# Altium footprint library Connector_PinSocket_2.00mm.PcbLib: 278 footprints (part 11 of 18)
Each footprint in its own frame and in the unit in brackets; x right, y up, seen from the top. Pads: shape width x height; smd on the part's side, far side on the other; paste and mask are expansions set on the pad; w line width, h text height; cw(c..) or ccw(c..) is an arc to the next point about the centre after c.
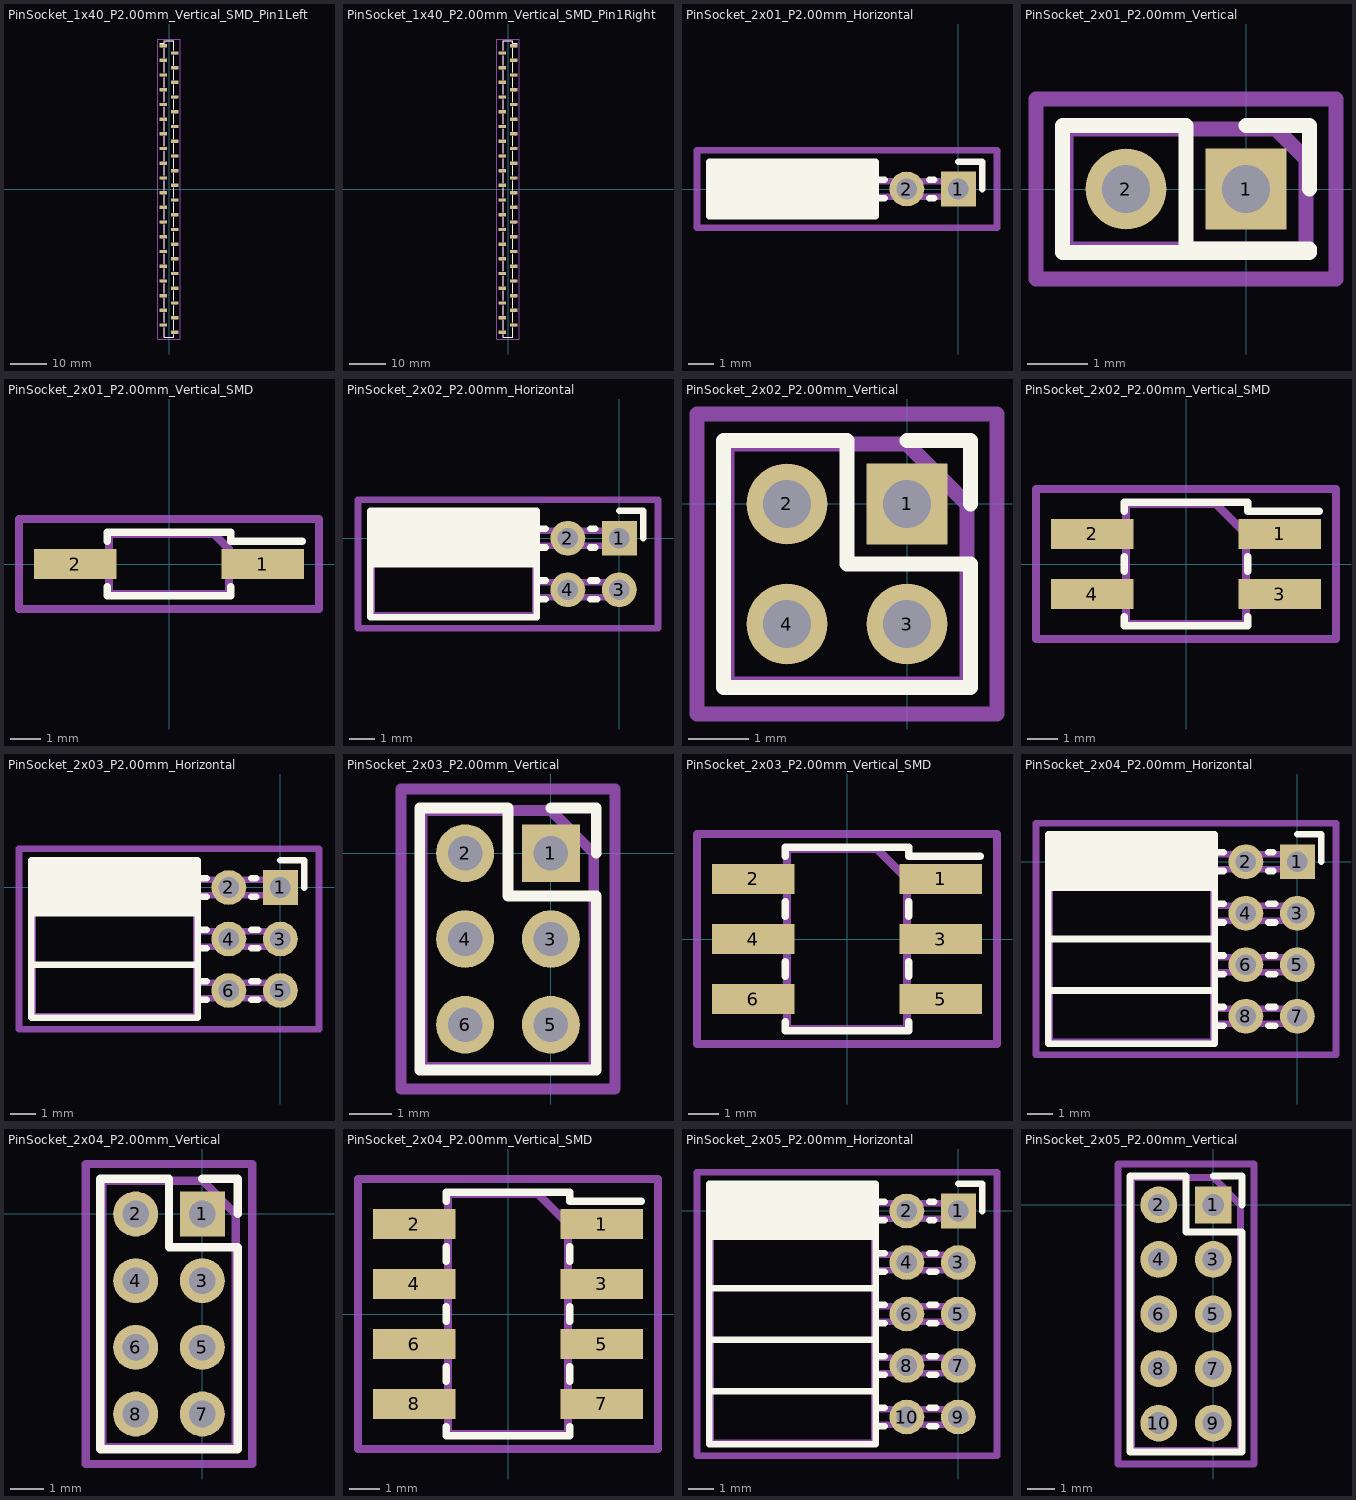
[diagram p10: the footprints below, top view; thin cyan lines are the x and y axes]

## PinSocket_1x40_P2.00mm_Vertical_SMD_Pin1Left [mm]
pads (40):
  rect 2x0.9 smd: 1(-1.6,39) 2(1.6,37) 3(-1.6,35) 4(1.6,33) 5(-1.6,31) 6(1.6,29) 7(-1.6,27) 8(1.6,25) 9(-1.6,23) 10(1.6,21) 11(-1.6,19) 12(1.6,17) 13(-1.6,15) 14(1.6,13) 15(-1.6,11) 16(1.6,9) 17(-1.6,7) 18(1.6,5) 19(-1.6,3) 20(1.6,1) 21(-1.6,-1) 22(1.6,-3) 23(-1.6,-5) 24(1.6,-7) 25(-1.6,-9) 26(1.6,-11) 27(-1.6,-13) 28(1.6,-15) 29(-1.6,-17) 30(1.6,-19) 31(-1.6,-21) 32(1.6,-23) 33(-1.6,-25) 34(1.6,-27) 35(-1.6,-29) 36(1.6,-31) 37(-1.6,-33) 38(1.6,-35) 39(-1.6,-37) 40(1.6,-39)
F.SilkS:
  lines w0.254: -2.54,39.71 -1.31,39.71 -1.31,40.36 1.31,40.36 1.31,37.71 ; -1.31,-37.71 -1.31,-40.36 1.31,-40.36 1.31,-39.71 ; -1.31,-36.29 -1.31,-33.71 ; -1.31,-32.29 -1.31,-29.71 ; -1.31,-28.29 -1.31,-25.71 ; -1.31,-24.29 -1.31,-21.71 ; -1.31,-20.29 -1.31,-17.71 ; -1.31,-16.29 -1.31,-13.71 ; -1.31,-12.29 -1.31,-9.71 ; -1.31,-8.29 -1.31,-5.71 ; -1.31,-4.29 -1.31,-1.71 ; -1.31,-0.29 -1.31,2.29 ; -1.31,3.71 -1.31,6.29 ; -1.31,7.71 -1.31,10.29 ; -1.31,11.71 -1.31,14.29 ; -1.31,15.71 -1.31,18.29 ; -1.31,19.71 -1.31,22.29 ; -1.31,23.71 -1.31,26.29 ; -1.31,27.71 -1.31,30.29 ; -1.31,31.71 -1.31,34.29 ; -1.31,35.71 -1.31,38.29 ; 1.31,-38.29 1.31,-35.71 ; 1.31,-34.29 1.31,-31.71 ; 1.31,-30.29 1.31,-27.71 ; 1.31,-26.29 1.31,-23.71 ; 1.31,-22.29 1.31,-19.71 ; 1.31,-18.29 1.31,-15.71 ; 1.31,-14.29 1.31,-11.71 ; 1.31,-10.29 1.31,-7.71 ; 1.31,-6.29 1.31,-3.71 ; 1.31,-2.29 1.31,0.29 ; 1.31,1.71 1.31,4.29 ; 1.31,5.71 1.31,8.29 ; 1.31,9.71 1.31,12.29 ; 1.31,13.71 1.31,16.29 ; 1.31,17.71 1.31,20.29 ; 1.31,21.71 1.31,24.29 ; 1.31,25.71 1.31,28.29 ; 1.31,29.71 1.31,32.29 ; 1.31,33.71 1.31,36.29
Top Assembly:
  lines w0.254: -1.25,-37.25 -2.1,-37.25 -2.1,-36.75 -1.25,-36.75 ; -1.25,-33.25 -2.1,-33.25 -2.1,-32.75 -1.25,-32.75 ; -1.25,-29.25 -2.1,-29.25 -2.1,-28.75 -1.25,-28.75 ; -1.25,-25.25 -2.1,-25.25 -2.1,-24.75 -1.25,-24.75 ; -1.25,-21.25 -2.1,-21.25 -2.1,-20.75 -1.25,-20.75 ; -1.25,-17.25 -2.1,-17.25 -2.1,-16.75 -1.25,-16.75 ; -1.25,-13.25 -2.1,-13.25 -2.1,-12.75 -1.25,-12.75 ; -1.25,-9.25 -2.1,-9.25 -2.1,-8.75 -1.25,-8.75 ; -1.25,-5.25 -2.1,-5.25 -2.1,-4.75 -1.25,-4.75 ; -1.25,-1.25 -2.1,-1.25 -2.1,-0.75 -1.25,-0.75 ; -1.25,2.75 -2.1,2.75 -2.1,3.25 -1.25,3.25 ; -1.25,6.75 -2.1,6.75 -2.1,7.25 -1.25,7.25 ; -1.25,10.75 -2.1,10.75 -2.1,11.25 -1.25,11.25 ; -1.25,14.75 -2.1,14.75 -2.1,15.25 -1.25,15.25 ; -1.25,18.75 -2.1,18.75 -2.1,19.25 -1.25,19.25 ; -1.25,22.75 -2.1,22.75 -2.1,23.25 -1.25,23.25 ; -1.25,26.75 -2.1,26.75 -2.1,27.25 -1.25,27.25 ; -1.25,30.75 -2.1,30.75 -2.1,31.25 -1.25,31.25 ; -1.25,34.75 -2.1,34.75 -2.1,35.25 -1.25,35.25 ; -1.25,38.75 -2.1,38.75 -2.1,39.25 -1.25,39.25 ; 1.25,-39.25 2.1,-39.25 2.1,-38.75 1.25,-38.75 ; 1.25,-35.25 2.1,-35.25 2.1,-34.75 1.25,-34.75 ; 1.25,-31.25 2.1,-31.25 2.1,-30.75 1.25,-30.75 ; 1.25,-27.25 2.1,-27.25 2.1,-26.75 1.25,-26.75 ; 1.25,-23.25 2.1,-23.25 2.1,-22.75 1.25,-22.75 ; 1.25,-19.25 2.1,-19.25 2.1,-18.75 1.25,-18.75 ; 1.25,-15.25 2.1,-15.25 2.1,-14.75 1.25,-14.75 ; 1.25,-11.25 2.1,-11.25 2.1,-10.75 1.25,-10.75 ; 1.25,-7.25 2.1,-7.25 2.1,-6.75 1.25,-6.75 ; 1.25,-3.25 2.1,-3.25 2.1,-2.75 1.25,-2.75 ; 1.25,0.75 2.1,0.75 2.1,1.25 1.25,1.25 ; 1.25,4.75 2.1,4.75 2.1,5.25 1.25,5.25 ; 1.25,8.75 2.1,8.75 2.1,9.25 1.25,9.25 ; 1.25,12.75 2.1,12.75 2.1,13.25 1.25,13.25 ; 1.25,16.75 2.1,16.75 2.1,17.25 1.25,17.25 ; 1.25,20.75 2.1,20.75 2.1,21.25 1.25,21.25 ; 1.25,24.75 2.1,24.75 2.1,25.25 1.25,25.25 ; 1.25,28.75 2.1,28.75 2.1,29.25 1.25,29.25 ; 1.25,32.75 2.1,32.75 2.1,33.25 1.25,33.25 ; 1.25,36.75 2.1,36.75 2.1,37.25 1.25,37.25 ; -1.25,-40.3 1.25,-40.3 1.25,40.3 -0.625,40.3 -1.25,39.675 -1.25,-40.3
  text "'.Designator'" at 0.84,-4.047 h1
Top Courtyard:
  lines w0.254: -3.1,-40.8 3.1,-40.8 3.1,40.8 -3.1,40.8 -3.1,-40.8
Top Designator:
  text ".Designator" at -7.618,-0.508 h1.52

## PinSocket_1x40_P2.00mm_Vertical_SMD_Pin1Right [mm]
pads (40):
  rect 2x0.9 smd: 1(1.6,39) 2(-1.6,37) 3(1.6,35) 4(-1.6,33) 5(1.6,31) 6(-1.6,29) 7(1.6,27) 8(-1.6,25) 9(1.6,23) 10(-1.6,21) 11(1.6,19) 12(-1.6,17) 13(1.6,15) 14(-1.6,13) 15(1.6,11) 16(-1.6,9) 17(1.6,7) 18(-1.6,5) 19(1.6,3) 20(-1.6,1) 21(1.6,-1) 22(-1.6,-3) 23(1.6,-5) 24(-1.6,-7) 25(1.6,-9) 26(-1.6,-11) 27(1.6,-13) 28(-1.6,-15) 29(1.6,-17) 30(-1.6,-19) 31(1.6,-21) 32(-1.6,-23) 33(1.6,-25) 34(-1.6,-27) 35(1.6,-29) 36(-1.6,-31) 37(1.6,-33) 38(-1.6,-35) 39(1.6,-37) 40(-1.6,-39)
F.SilkS:
  lines w0.254: -1.31,-39.71 -1.31,-40.36 1.31,-40.36 1.31,-37.71 ; -1.31,-38.29 -1.31,-35.71 ; -1.31,-34.29 -1.31,-31.71 ; -1.31,-30.29 -1.31,-27.71 ; -1.31,-26.29 -1.31,-23.71 ; -1.31,-22.29 -1.31,-19.71 ; -1.31,-18.29 -1.31,-15.71 ; -1.31,-14.29 -1.31,-11.71 ; -1.31,-10.29 -1.31,-7.71 ; -1.31,-6.29 -1.31,-3.71 ; -1.31,-2.29 -1.31,0.29 ; -1.31,1.71 -1.31,4.29 ; -1.31,5.71 -1.31,8.29 ; -1.31,9.71 -1.31,12.29 ; -1.31,13.71 -1.31,16.29 ; -1.31,17.71 -1.31,20.29 ; -1.31,21.71 -1.31,24.29 ; -1.31,25.71 -1.31,28.29 ; -1.31,29.71 -1.31,32.29 ; -1.31,33.71 -1.31,36.29 ; -1.31,37.71 -1.31,40.36 1.31,40.36 1.31,39.71 2.54,39.71 ; 1.31,-36.29 1.31,-33.71 ; 1.31,-32.29 1.31,-29.71 ; 1.31,-28.29 1.31,-25.71 ; 1.31,-24.29 1.31,-21.71 ; 1.31,-20.29 1.31,-17.71 ; 1.31,-16.29 1.31,-13.71 ; 1.31,-12.29 1.31,-9.71 ; 1.31,-8.29 1.31,-5.71 ; 1.31,-4.29 1.31,-1.71 ; 1.31,-0.29 1.31,2.29 ; 1.31,3.71 1.31,6.29 ; 1.31,7.71 1.31,10.29 ; 1.31,11.71 1.31,14.29 ; 1.31,15.71 1.31,18.29 ; 1.31,19.71 1.31,22.29 ; 1.31,23.71 1.31,26.29 ; 1.31,27.71 1.31,30.29 ; 1.31,31.71 1.31,34.29 ; 1.31,35.71 1.31,38.29
Top Assembly:
  lines w0.254: -1.25,-39.25 -2.1,-39.25 -2.1,-38.75 -1.25,-38.75 ; -1.25,-35.25 -2.1,-35.25 -2.1,-34.75 -1.25,-34.75 ; -1.25,-31.25 -2.1,-31.25 -2.1,-30.75 -1.25,-30.75 ; -1.25,-27.25 -2.1,-27.25 -2.1,-26.75 -1.25,-26.75 ; -1.25,-23.25 -2.1,-23.25 -2.1,-22.75 -1.25,-22.75 ; -1.25,-19.25 -2.1,-19.25 -2.1,-18.75 -1.25,-18.75 ; -1.25,-15.25 -2.1,-15.25 -2.1,-14.75 -1.25,-14.75 ; -1.25,-11.25 -2.1,-11.25 -2.1,-10.75 -1.25,-10.75 ; -1.25,-7.25 -2.1,-7.25 -2.1,-6.75 -1.25,-6.75 ; -1.25,-3.25 -2.1,-3.25 -2.1,-2.75 -1.25,-2.75 ; -1.25,0.75 -2.1,0.75 -2.1,1.25 -1.25,1.25 ; -1.25,4.75 -2.1,4.75 -2.1,5.25 -1.25,5.25 ; -1.25,8.75 -2.1,8.75 -2.1,9.25 -1.25,9.25 ; -1.25,12.75 -2.1,12.75 -2.1,13.25 -1.25,13.25 ; -1.25,16.75 -2.1,16.75 -2.1,17.25 -1.25,17.25 ; -1.25,20.75 -2.1,20.75 -2.1,21.25 -1.25,21.25 ; -1.25,24.75 -2.1,24.75 -2.1,25.25 -1.25,25.25 ; -1.25,28.75 -2.1,28.75 -2.1,29.25 -1.25,29.25 ; -1.25,32.75 -2.1,32.75 -2.1,33.25 -1.25,33.25 ; -1.25,36.75 -2.1,36.75 -2.1,37.25 -1.25,37.25 ; 1.25,-37.25 2.1,-37.25 2.1,-36.75 1.25,-36.75 ; 1.25,-33.25 2.1,-33.25 2.1,-32.75 1.25,-32.75 ; 1.25,-29.25 2.1,-29.25 2.1,-28.75 1.25,-28.75 ; 1.25,-25.25 2.1,-25.25 2.1,-24.75 1.25,-24.75 ; 1.25,-21.25 2.1,-21.25 2.1,-20.75 1.25,-20.75 ; 1.25,-17.25 2.1,-17.25 2.1,-16.75 1.25,-16.75 ; 1.25,-13.25 2.1,-13.25 2.1,-12.75 1.25,-12.75 ; 1.25,-9.25 2.1,-9.25 2.1,-8.75 1.25,-8.75 ; 1.25,-5.25 2.1,-5.25 2.1,-4.75 1.25,-4.75 ; 1.25,-1.25 2.1,-1.25 2.1,-0.75 1.25,-0.75 ; 1.25,2.75 2.1,2.75 2.1,3.25 1.25,3.25 ; 1.25,6.75 2.1,6.75 2.1,7.25 1.25,7.25 ; 1.25,10.75 2.1,10.75 2.1,11.25 1.25,11.25 ; 1.25,14.75 2.1,14.75 2.1,15.25 1.25,15.25 ; 1.25,18.75 2.1,18.75 2.1,19.25 1.25,19.25 ; 1.25,22.75 2.1,22.75 2.1,23.25 1.25,23.25 ; 1.25,26.75 2.1,26.75 2.1,27.25 1.25,27.25 ; 1.25,30.75 2.1,30.75 2.1,31.25 1.25,31.25 ; 1.25,34.75 2.1,34.75 2.1,35.25 1.25,35.25 ; 1.25,38.75 2.1,38.75 2.1,39.25 1.25,39.25 ; -1.25,-40.3 1.25,-40.3 1.25,39.675 0.625,40.3 -1.25,40.3 -1.25,-40.3
  text "'.Designator'" at 0.84,-4.047 h1
Top Courtyard:
  lines w0.254: -3.1,-40.8 3.1,-40.8 3.1,40.8 -3.1,40.8 -3.1,-40.8
Top Designator:
  text ".Designator" at -7.618,-0.508 h1.52

## PinSocket_2x01_P2.00mm_Horizontal [mm]
pads (2):
  rect 1.35x1.35 hole 0.8: 1(0,0)
  round 1.35 hole 0.8: 2(-2,0)
F.SilkS:
  lines w0.254: -9.68,-0.942 -3.21,-0.942 ; -9.68,-0.825 -3.21,-0.825 ; -9.68,-0.707 -3.21,-0.707 ; -9.68,-0.589 -3.21,-0.589 ; -9.68,-0.472 -3.21,-0.472 ; -9.68,-0.354 -3.21,-0.354 ; -9.68,-0.236 -3.21,-0.236 ; -9.68,-0.119 -3.21,-0.119 ; -9.68,-0.001 -3.21,-0.001 ; -9.68,0.116 -3.21,0.116 ; -9.68,0.234 -3.21,0.234 ; -9.68,0.352 -3.21,0.352 ; -9.68,0.469 -3.21,0.469 ; -9.68,0.587 -3.21,0.587 ; -9.68,0.705 -3.21,0.705 ; -9.68,0.822 -3.21,0.822 ; -9.68,0.94 -3.21,0.94 ; -3.21,-0.36 -2.863,-0.36 ; -3.21,0.36 -2.863,0.36 ; -1.137,-0.36 -0.935,-0.36 ; -1.137,0.36 -0.935,0.36 ; 0,1.06 0.935,1.06 0.935,0 ; -9.68,-1.06 -3.21,-1.06 -3.21,1.06 -9.68,1.06 -9.68,-1.06
Top Assembly:
  lines w0.254: -3.27,-0.3 0,-0.3 0,0.3 -3.27,0.3 ; -9.62,-1 -3.27,-1 -3.27,0.5 -3.77,1 -9.62,1 -9.62,-1
  text "'.Designator'" at -10.492,-0.84 h1
Top Courtyard:
  lines w0.254: -10.15,-1.5 1.5,-1.5 1.5,1.5 -10.15,1.5 -10.15,-1.5
Top Designator:
  text ".Designator" at -12.125,-0.508 h1.52

## PinSocket_2x01_P2.00mm_Vertical [mm]
pads (2):
  rect 1.35x1.35 hole 0.8: 1(0,0)
  round 1.35 hole 0.8: 2(-2,0)
F.SilkS:
  lines w0.254: 0,1.06 1.06,1.06 1.06,0 ; -3.06,-1.06 1.06,-1.06 1.06,-1 -1,-1 -1,1.06 -3.06,1.06 -3.06,-1.06
Top Assembly:
  lines w0.254: -3,-1 1,-1 1,0.5 0.5,1 -3,1 -3,-1
  text "'.Designator'" at -5.047,-0.84 h1
Top Courtyard:
  lines w0.254: -3.5,-1.5 1.5,-1.5 1.5,1.5 -3.5,1.5 -3.5,-1.5
Top Designator:
  text ".Designator" at -8.768,-0.508 h1.52

## PinSocket_2x01_P2.00mm_Vertical_SMD [mm]
pads (2):
  rect 2.75x1 smd: 1(3.125,0) 2(-3.125,0)
F.SilkS:
  lines w0.254: -2.06,-0.76 -2.06,-1.06 2.06,-1.06 2.06,-0.76 ; -2.06,0.76 -2.06,1.06 2.06,1.06 2.06,0.76 4.44,0.76
Top Assembly:
  lines w0.254: -2,-0.25 -3,-0.25 -3,0.25 -2,0.25 ; 2,-0.25 3,-0.25 3,0.25 2,0.25 ; -2,-1 2,-1 2,0.5 1.5,1 -2,1 -2,-1
  text "'.Designator'" at -4.047,-0.84 h1
Top Courtyard:
  lines w0.254: -5,-1.5 5,-1.5 5,1.5 -5,1.5 -5,-1.5
Top Designator:
  text ".Designator" at -7.618,-0.508 h1.52

## PinSocket_2x02_P2.00mm_Horizontal [mm]
pads (4):
  rect 1.35x1.35 hole 0.8: 1(0,0)
  round 1.35 hole 0.8: 2(-2,0) 3(0,-2) 4(-2,-2)
F.SilkS:
  lines w0.254: -9.68,-1 -3.21,-1 ; -9.68,-0.886 -3.21,-0.886 ; -9.68,-0.772 -3.21,-0.772 ; -9.68,-0.658 -3.21,-0.658 ; -9.68,-0.544 -3.21,-0.544 ; -9.68,-0.429 -3.21,-0.429 ; -9.68,-0.315 -3.21,-0.315 ; -9.68,-0.201 -3.21,-0.201 ; -9.68,-0.087 -3.21,-0.087 ; -9.68,0.027 -3.21,0.027 ; -9.68,0.141 -3.21,0.141 ; -9.68,0.255 -3.21,0.255 ; -9.68,0.369 -3.21,0.369 ; -9.68,0.484 -3.21,0.484 ; -9.68,0.598 -3.21,0.598 ; -9.68,0.712 -3.21,0.712 ; -9.68,0.826 -3.21,0.826 ; -9.68,0.94 -3.21,0.94 ; -3.21,-2.36 -2.863,-2.36 ; -3.21,-1.64 -2.863,-1.64 ; -3.21,-0.36 -2.863,-0.36 ; -3.21,0.36 -2.863,0.36 ; -1.137,-2.36 -0.863,-2.36 ; -1.137,-1.64 -0.863,-1.64 ; -1.137,-0.36 -0.935,-0.36 ; -1.137,0.36 -0.935,0.36 ; 0,1.06 0.935,1.06 0.935,0 ; -9.68,-3.06 -3.21,-3.06 -3.21,1.06 -9.68,1.06 -9.68,-3.06
Top Assembly:
  lines w0.254: -3.27,-2.3 0,-2.3 0,-1.7 -3.27,-1.7 ; -3.27,-0.3 0,-0.3 0,0.3 -3.27,0.3 ; -3.27,0.3 -3.27,-3 -9.62,-3 -9.62,1 -3.97,1 -3.27,0.3
  text "'.Designator'" at -10.492,-1.84 h1
Top Courtyard:
  lines w0.254: -10.15,-3.5 1.5,-3.5 1.5,1.5 -10.15,1.5 -10.15,-3.5
Top Designator:
  text ".Designator" at -12.125,-1.508 h1.52

## PinSocket_2x02_P2.00mm_Vertical [mm]
pads (4):
  rect 1.35x1.35 hole 0.8: 1(0,0)
  round 1.35 hole 0.8: 2(-2,0) 3(0,-2) 4(-2,-2)
F.SilkS:
  lines w0.254: 0,1.06 1.06,1.06 1.06,0 ; -3.06,-3.06 1.06,-3.06 1.06,-1 -1,-1 -1,1.06 -3.06,1.06 -3.06,-3.06
Top Assembly:
  lines w0.254: -3,-3 1,-3 1,0 0,1 -3,1 -3,-3
  text "'.Designator'" at -0.16,-5.047 h1
Top Courtyard:
  lines w0.254: -3.5,-3.5 1.5,-3.5 1.5,1.5 -3.5,1.5 -3.5,-3.5
Top Designator:
  text ".Designator" at -8.618,-1.658 h1.52

## PinSocket_2x02_P2.00mm_Vertical_SMD [mm]
pads (4):
  rect 2.75x1 smd: 1(3.125,1) 2(-3.125,1) 3(3.125,-1) 4(-3.125,-1)
F.SilkS:
  lines w0.254: -2.06,-1.76 -2.06,-2.06 2.06,-2.06 2.06,-1.76 ; -2.06,-0.24 -2.06,0.24 ; -2.06,1.76 -2.06,2.06 2.06,2.06 2.06,1.76 4.44,1.76 ; 2.06,-0.24 2.06,0.24
Top Assembly:
  lines w0.254: -2,-1.25 -3,-1.25 -3,-0.75 -2,-0.75 ; -2,0.75 -3,0.75 -3,1.25 -2,1.25 ; 2,-1.25 3,-1.25 3,-0.75 2,-0.75 ; 2,0.75 3,0.75 3,1.25 2,1.25 ; -2,-2 2,-2 2,1 1,2 -2,2 -2,-2
  text "'.Designator'" at 0.84,-4.047 h1
Top Courtyard:
  lines w0.254: -5,-2.5 5,-2.5 5,2.5 -5,2.5 -5,-2.5
Top Designator:
  text ".Designator" at -7.618,-0.658 h1.52

## PinSocket_2x03_P2.00mm_Horizontal [mm]
pads (6):
  rect 1.35x1.35 hole 0.8: 1(0,0)
  round 1.35 hole 0.8: 2(-2,0) 3(0,-2) 4(-2,-2) 5(0,-4) 6(-2,-4)
F.SilkS:
  lines w0.254: -9.68,-3 -3.21,-3 ; -9.68,-1 -3.21,-1 ; -9.68,-0.886 -3.21,-0.886 ; -9.68,-0.772 -3.21,-0.772 ; -9.68,-0.658 -3.21,-0.658 ; -9.68,-0.544 -3.21,-0.544 ; -9.68,-0.429 -3.21,-0.429 ; -9.68,-0.315 -3.21,-0.315 ; -9.68,-0.201 -3.21,-0.201 ; -9.68,-0.087 -3.21,-0.087 ; -9.68,0.027 -3.21,0.027 ; -9.68,0.141 -3.21,0.141 ; -9.68,0.255 -3.21,0.255 ; -9.68,0.369 -3.21,0.369 ; -9.68,0.484 -3.21,0.484 ; -9.68,0.598 -3.21,0.598 ; -9.68,0.712 -3.21,0.712 ; -9.68,0.826 -3.21,0.826 ; -9.68,0.94 -3.21,0.94 ; -3.21,-4.36 -2.863,-4.36 ; -3.21,-3.64 -2.863,-3.64 ; -3.21,-2.36 -2.863,-2.36 ; -3.21,-1.64 -2.863,-1.64 ; -3.21,-0.36 -2.863,-0.36 ; -3.21,0.36 -2.863,0.36 ; -1.137,-4.36 -0.863,-4.36 ; -1.137,-3.64 -0.863,-3.64 ; -1.137,-2.36 -0.863,-2.36 ; -1.137,-1.64 -0.863,-1.64 ; -1.137,-0.36 -0.935,-0.36 ; -1.137,0.36 -0.935,0.36 ; 0,1.06 0.935,1.06 0.935,0 ; -9.68,-5.06 -3.21,-5.06 -3.21,1.06 -9.68,1.06 -9.68,-5.06
Top Assembly:
  lines w0.254: -3.27,-4.3 0,-4.3 0,-3.7 -3.27,-3.7 ; -3.27,-2.3 0,-2.3 0,-1.7 -3.27,-1.7 ; -3.27,-0.3 0,-0.3 0,0.3 -3.27,0.3 ; -3.27,0.3 -3.27,-5 -9.62,-5 -9.62,1 -3.97,1 -3.27,0.3
  text "'.Designator'" at -10.492,-2.84 h1
Top Courtyard:
  lines w0.254: -10.15,-5.5 1.5,-5.5 1.5,1.5 -10.15,1.5 -10.15,-5.5
Top Designator:
  text ".Designator" at -12.125,-2.508 h1.52

## PinSocket_2x03_P2.00mm_Vertical [mm]
pads (6):
  rect 1.35x1.35 hole 0.8: 1(0,0)
  round 1.35 hole 0.8: 2(-2,0) 3(0,-2) 4(-2,-2) 5(0,-4) 6(-2,-4)
F.SilkS:
  lines w0.254: 0,1.06 1.06,1.06 1.06,0 ; -3.06,-5.06 1.06,-5.06 1.06,-1 -1,-1 -1,1.06 -3.06,1.06 -3.06,-5.06
Top Assembly:
  lines w0.254: -3,-5 1,-5 1,0 0,1 -3,1 -3,-5
  text "'.Designator'" at -0.16,-6.047 h1
Top Courtyard:
  lines w0.254: -3.5,-5.5 1.5,-5.5 1.5,1.5 -3.5,1.5 -3.5,-5.5
Top Designator:
  text ".Designator" at -8.618,-2.658 h1.52

## PinSocket_2x03_P2.00mm_Vertical_SMD [mm]
pads (6):
  rect 2.75x1 smd: 1(3.125,2) 2(-3.125,2) 3(3.125,0) 4(-3.125,0) 5(3.125,-2) 6(-3.125,-2)
F.SilkS:
  lines w0.254: -2.06,-2.76 -2.06,-3.06 2.06,-3.06 2.06,-2.76 ; -2.06,-1.24 -2.06,-0.76 ; -2.06,0.76 -2.06,1.24 ; -2.06,2.76 -2.06,3.06 2.06,3.06 2.06,2.76 4.44,2.76 ; 2.06,-1.24 2.06,-0.76 ; 2.06,0.76 2.06,1.24
Top Assembly:
  lines w0.254: -2,-2.25 -3,-2.25 -3,-1.75 -2,-1.75 ; -2,-0.25 -3,-0.25 -3,0.25 -2,0.25 ; -2,1.75 -3,1.75 -3,2.25 -2,2.25 ; 2,-2.25 3,-2.25 3,-1.75 2,-1.75 ; 2,-0.25 3,-0.25 3,0.25 2,0.25 ; 2,1.75 3,1.75 3,2.25 2,2.25 ; -2,-3 2,-3 2,2 1,3 -2,3 -2,-3
  text "'.Designator'" at 0.84,-4.047 h1
Top Courtyard:
  lines w0.254: -5,-3.5 5,-3.5 5,3.5 -5,3.5 -5,-3.5
Top Designator:
  text ".Designator" at -7.618,-0.658 h1.52

## PinSocket_2x04_P2.00mm_Horizontal [mm]
pads (8):
  rect 1.35x1.35 hole 0.8: 1(0,0)
  round 1.35 hole 0.8: 2(-2,0) 3(0,-2) 4(-2,-2) 5(0,-4) 6(-2,-4) 7(0,-6) 8(-2,-6)
F.SilkS:
  lines w0.254: -9.68,-5 -3.21,-5 ; -9.68,-3 -3.21,-3 ; -9.68,-1 -3.21,-1 ; -9.68,-0.886 -3.21,-0.886 ; -9.68,-0.772 -3.21,-0.772 ; -9.68,-0.658 -3.21,-0.658 ; -9.68,-0.544 -3.21,-0.544 ; -9.68,-0.429 -3.21,-0.429 ; -9.68,-0.315 -3.21,-0.315 ; -9.68,-0.201 -3.21,-0.201 ; -9.68,-0.087 -3.21,-0.087 ; -9.68,0.027 -3.21,0.027 ; -9.68,0.141 -3.21,0.141 ; -9.68,0.255 -3.21,0.255 ; -9.68,0.369 -3.21,0.369 ; -9.68,0.484 -3.21,0.484 ; -9.68,0.598 -3.21,0.598 ; -9.68,0.712 -3.21,0.712 ; -9.68,0.826 -3.21,0.826 ; -9.68,0.94 -3.21,0.94 ; -3.21,-6.36 -2.863,-6.36 ; -3.21,-5.64 -2.863,-5.64 ; -3.21,-4.36 -2.863,-4.36 ; -3.21,-3.64 -2.863,-3.64 ; -3.21,-2.36 -2.863,-2.36 ; -3.21,-1.64 -2.863,-1.64 ; -3.21,-0.36 -2.863,-0.36 ; -3.21,0.36 -2.863,0.36 ; -1.137,-6.36 -0.863,-6.36 ; -1.137,-5.64 -0.863,-5.64 ; -1.137,-4.36 -0.863,-4.36 ; -1.137,-3.64 -0.863,-3.64 ; -1.137,-2.36 -0.863,-2.36 ; -1.137,-1.64 -0.863,-1.64 ; -1.137,-0.36 -0.935,-0.36 ; -1.137,0.36 -0.935,0.36 ; 0,1.06 0.935,1.06 0.935,0 ; -9.68,-7.06 -3.21,-7.06 -3.21,1.06 -9.68,1.06 -9.68,-7.06
Top Assembly:
  lines w0.254: -3.27,-6.3 0,-6.3 0,-5.7 -3.27,-5.7 ; -3.27,-4.3 0,-4.3 0,-3.7 -3.27,-3.7 ; -3.27,-2.3 0,-2.3 0,-1.7 -3.27,-1.7 ; -3.27,-0.3 0,-0.3 0,0.3 -3.27,0.3 ; -3.27,0.3 -3.27,-7 -9.62,-7 -9.62,1 -3.97,1 -3.27,0.3
  text "'.Designator'" at -5.605,-7.047 h1
Top Courtyard:
  lines w0.254: -10.15,-7.5 1.5,-7.5 1.5,1.5 -10.15,1.5 -10.15,-7.5
Top Designator:
  text ".Designator" at -11.943,-3.508 h1.52

## PinSocket_2x04_P2.00mm_Vertical [mm]
pads (8):
  rect 1.35x1.35 hole 0.8: 1(0,0)
  round 1.35 hole 0.8: 2(-2,0) 3(0,-2) 4(-2,-2) 5(0,-4) 6(-2,-4) 7(0,-6) 8(-2,-6)
F.SilkS:
  lines w0.254: 0,1.06 1.06,1.06 1.06,0 ; -3.06,-7.06 1.06,-7.06 1.06,-1 -1,-1 -1,1.06 -3.06,1.06 -3.06,-7.06
Top Assembly:
  lines w0.254: -3,-7 1,-7 1,0 0,1 -3,1 -3,-7
  text "'.Designator'" at -0.16,-7.047 h1
Top Courtyard:
  lines w0.254: -3.5,-7.5 1.5,-7.5 1.5,1.5 -3.5,1.5 -3.5,-7.5
Top Designator:
  text ".Designator" at -8.618,-3.508 h1.52

## PinSocket_2x04_P2.00mm_Vertical_SMD [mm]
pads (8):
  rect 2.75x1 smd: 1(3.125,3) 2(-3.125,3) 3(3.125,1) 4(-3.125,1) 5(3.125,-1) 6(-3.125,-1) 7(3.125,-3) 8(-3.125,-3)
F.SilkS:
  lines w0.254: -2.06,-3.76 -2.06,-4.06 2.06,-4.06 2.06,-3.76 ; -2.06,-2.24 -2.06,-1.76 ; -2.06,-0.24 -2.06,0.24 ; -2.06,1.76 -2.06,2.24 ; -2.06,3.76 -2.06,4.06 2.06,4.06 2.06,3.76 4.44,3.76 ; 2.06,-2.24 2.06,-1.76 ; 2.06,-0.24 2.06,0.24 ; 2.06,1.76 2.06,2.24
Top Assembly:
  lines w0.254: -2,-3.25 -3,-3.25 -3,-2.75 -2,-2.75 ; -2,-1.25 -3,-1.25 -3,-0.75 -2,-0.75 ; -2,0.75 -3,0.75 -3,1.25 -2,1.25 ; -2,2.75 -3,2.75 -3,3.25 -2,3.25 ; 2,-3.25 3,-3.25 3,-2.75 2,-2.75 ; 2,-1.25 3,-1.25 3,-0.75 2,-0.75 ; 2,0.75 3,0.75 3,1.25 2,1.25 ; 2,2.75 3,2.75 3,3.25 2,3.25 ; -2,-4 2,-4 2,3 1,4 -2,4 -2,-4
  text "'.Designator'" at 0.84,-4.047 h1
Top Courtyard:
  lines w0.254: -5,-4.5 5,-4.5 5,4.5 -5,4.5 -5,-4.5
Top Designator:
  text ".Designator" at -7.618,-0.508 h1.52

## PinSocket_2x05_P2.00mm_Horizontal [mm]
pads (10):
  rect 1.35x1.35 hole 0.8: 1(0,0)
  round 1.35 hole 0.8: 2(-2,0) 3(0,-2) 4(-2,-2) 5(0,-4) 6(-2,-4) 7(0,-6) 8(-2,-6) 9(0,-8) 10(-2,-8)
F.SilkS:
  lines w0.254: -9.68,-7 -3.21,-7 ; -9.68,-5 -3.21,-5 ; -9.68,-3 -3.21,-3 ; -9.68,-1 -3.21,-1 ; -9.68,-0.886 -3.21,-0.886 ; -9.68,-0.772 -3.21,-0.772 ; -9.68,-0.658 -3.21,-0.658 ; -9.68,-0.544 -3.21,-0.544 ; -9.68,-0.429 -3.21,-0.429 ; -9.68,-0.315 -3.21,-0.315 ; -9.68,-0.201 -3.21,-0.201 ; -9.68,-0.087 -3.21,-0.087 ; -9.68,0.027 -3.21,0.027 ; -9.68,0.141 -3.21,0.141 ; -9.68,0.255 -3.21,0.255 ; -9.68,0.369 -3.21,0.369 ; -9.68,0.484 -3.21,0.484 ; -9.68,0.598 -3.21,0.598 ; -9.68,0.712 -3.21,0.712 ; -9.68,0.826 -3.21,0.826 ; -9.68,0.94 -3.21,0.94 ; -3.21,-8.36 -2.863,-8.36 ; -3.21,-7.64 -2.863,-7.64 ; -3.21,-6.36 -2.863,-6.36 ; -3.21,-5.64 -2.863,-5.64 ; -3.21,-4.36 -2.863,-4.36 ; -3.21,-3.64 -2.863,-3.64 ; -3.21,-2.36 -2.863,-2.36 ; -3.21,-1.64 -2.863,-1.64 ; -3.21,-0.36 -2.863,-0.36 ; -3.21,0.36 -2.863,0.36 ; -1.137,-8.36 -0.863,-8.36 ; -1.137,-7.64 -0.863,-7.64 ; -1.137,-6.36 -0.863,-6.36 ; -1.137,-5.64 -0.863,-5.64 ; -1.137,-4.36 -0.863,-4.36 ; -1.137,-3.64 -0.863,-3.64 ; -1.137,-2.36 -0.863,-2.36 ; -1.137,-1.64 -0.863,-1.64 ; -1.137,-0.36 -0.935,-0.36 ; -1.137,0.36 -0.935,0.36 ; 0,1.06 0.935,1.06 0.935,0 ; -9.68,-9.06 -3.21,-9.06 -3.21,1.06 -9.68,1.06 -9.68,-9.06
Top Assembly:
  lines w0.254: -3.27,-8.3 0,-8.3 0,-7.7 -3.27,-7.7 ; -3.27,-6.3 0,-6.3 0,-5.7 -3.27,-5.7 ; -3.27,-4.3 0,-4.3 0,-3.7 -3.27,-3.7 ; -3.27,-2.3 0,-2.3 0,-1.7 -3.27,-1.7 ; -3.27,-0.3 0,-0.3 0,0.3 -3.27,0.3 ; -3.27,0.3 -3.27,-9 -9.62,-9 -9.62,1 -3.97,1 -3.27,0.3
  text "'.Designator'" at -5.605,-8.047 h1
Top Courtyard:
  lines w0.254: -10.15,-9.5 1.5,-9.5 1.5,1.5 -10.15,1.5 -10.15,-9.5
Top Designator:
  text ".Designator" at -11.943,-4.508 h1.52

## PinSocket_2x05_P2.00mm_Vertical [mm]
pads (10):
  rect 1.35x1.35 hole 0.8: 1(0,0)
  round 1.35 hole 0.8: 2(-2,0) 3(0,-2) 4(-2,-2) 5(0,-4) 6(-2,-4) 7(0,-6) 8(-2,-6) 9(0,-8) 10(-2,-8)
F.SilkS:
  lines w0.254: 0,1.06 1.06,1.06 1.06,0 ; -3.06,-9.06 1.06,-9.06 1.06,-1 -1,-1 -1,1.06 -3.06,1.06 -3.06,-9.06
Top Assembly:
  lines w0.254: -3,-9 1,-9 1,0 0,1 -3,1 -3,-9
  text "'.Designator'" at -0.16,-8.047 h1
Top Courtyard:
  lines w0.254: -3.5,-9.5 1.5,-9.5 1.5,1.5 -3.5,1.5 -3.5,-9.5
Top Designator:
  text ".Designator" at -8.618,-4.508 h1.52